# Altium schematic symbol library 0039300060.SchLib: 1 symbol
Pins are listed as number, name and electrical type; pins without a type are passive.

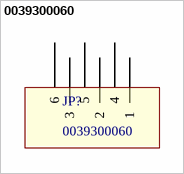
[diagram p0: symbol 0039300060]

## 0039300060
designator JP?
Manufacturer: Molex; PartDescription: CONN HEADER R/A 8POS 4.2MM; PartNumber: 0039300060; Package Type: 6 TH; Supplier 1: Digi-Key; Supplier Part Number 1: WM21353-ND
footprint 0039300060 (Molex Minifit 6 Pin)
pins: 1, 2, 3, 4, 5, 6